# EAGLE library part PESD4USB3B-TBSX (library SamacSys_Parts)
5.5V (Typ) Clamp 7A (8/20s) Ipp Tvs Diode Surface Mount, Wettable Flank DFN2510D-10 Source: Datasheet <https://assets.nexperia.com/documents/data-sheet/PESD4USB3B-TBS.pdf>
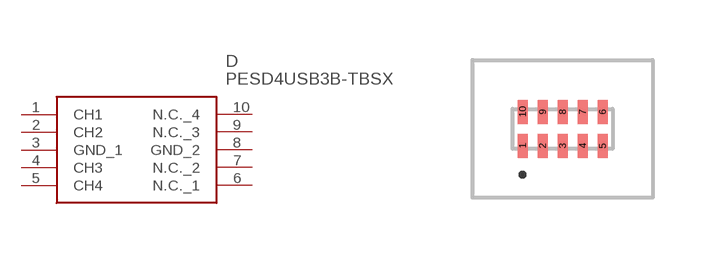
[diagram p2: symbol with the pads of PESD4USB3BTBSX; footprint PESD4USB3BTBSX]

Designator prefix D

## PESD4USB3B-TBSX (DESCRIPTION: 5.5V (Typ) Clamp 7A (8/20s) Ipp Tvs Diode Surface Mount, Wettable Flank DFN2510D-10; HEIGHT: 0.8mm; MANUFACTURER_NAME: Nexperia; MANUFACTURER_PART_NUMBER: PESD4USB3B-TBSX; MOUSER_PART_NUMBER: 771-PESD4USB3B-TBSX; MOUSER_PRICE-STOCK: https://www.mouser.co.uk/ProductDetail/Nexperia/PESD4USB3B-TBSX?qs=ljCeji4nMDkhzn%252By5k3Wzw%3D%3D)  [PESD4USB3BTBSX]
1  CH1
2  CH2
3  GND_1
4  CH3
5  CH4
6  N.C._1
7  N.C._2
8  GND_2
9  N.C._3
10  N.C._4

## Footprint PESD4USB3BTBSX (pad centres in mm)
PESD4USB3B-TBSX-5
smd 0.25 x 0.6: 1 -1,-0.425; 2 -0.5,-0.425; 3 0,-0.425; 4 0.5,-0.425; 5 1,-0.425; 6 1,0.425; 7 0.5,0.425; 8 0,0.425; 9 -0.5,0.425; 10 -1,0.425